# Altium footprint library SLW-102-01-X-D.PcbLib: 1 footprints
Each footprint in its own frame and in the unit in brackets; x right, y up, seen from the top. Pads: shape width x height; smd on the part's side, far side on the other; paste and mask are expansions set on the pad; w line width, h text height; cw(c..) or ccw(c..) is an arc to the next point about the centre after c.
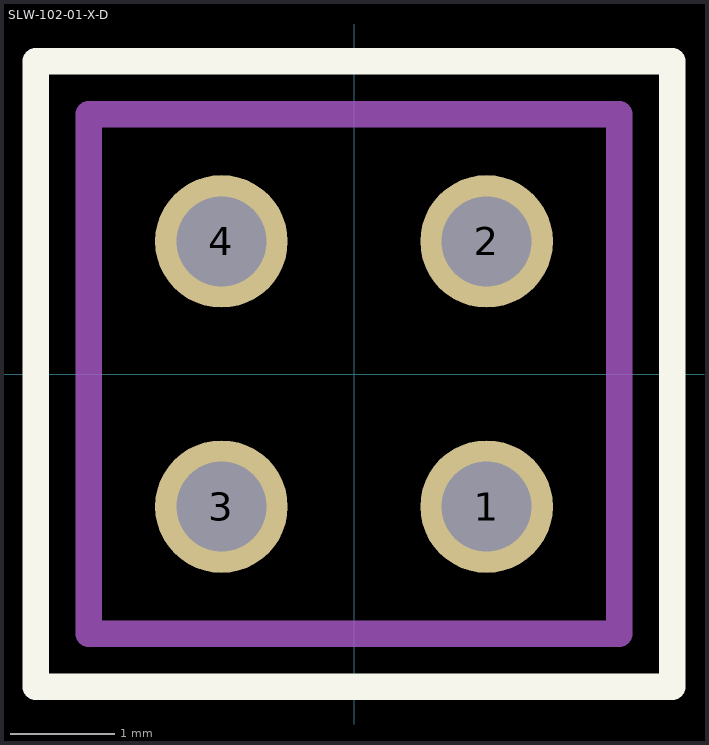
[diagram p0: the footprint, top view; thin cyan lines are the x and y axes]

## SLW-102-01-X-D [mil] "CONN RCPT 4POS 0.1 GOLD PCB"
height 179.92
pads (4):
  round 50 hole 34: 1(50,-50) 2(50,50) 3(-50,-50) 4(-50,50)
Top Overlay:
  lines w10: -120,-118 -120,118 120,118 120,-118 -120,-118
Mechanical 1:
  lines w10: -100,-98 -100,98 100,98 100,-98 -100,-98
3D body "SLW-102-01-G-D.stp": height 180, standoff -115, extent -100,-97.5 100,97.5